# Altium footprint library conn.PcbLib: 1 footprints
Each footprint in its own frame and in the unit in brackets; x right, y up, seen from the top. Pads: shape width x height; smd on the part's side, far side on the other; paste and mask are expansions set on the pad; w line width, h text height; cw(c..) or ccw(c..) is an arc to the next point about the centre after c.
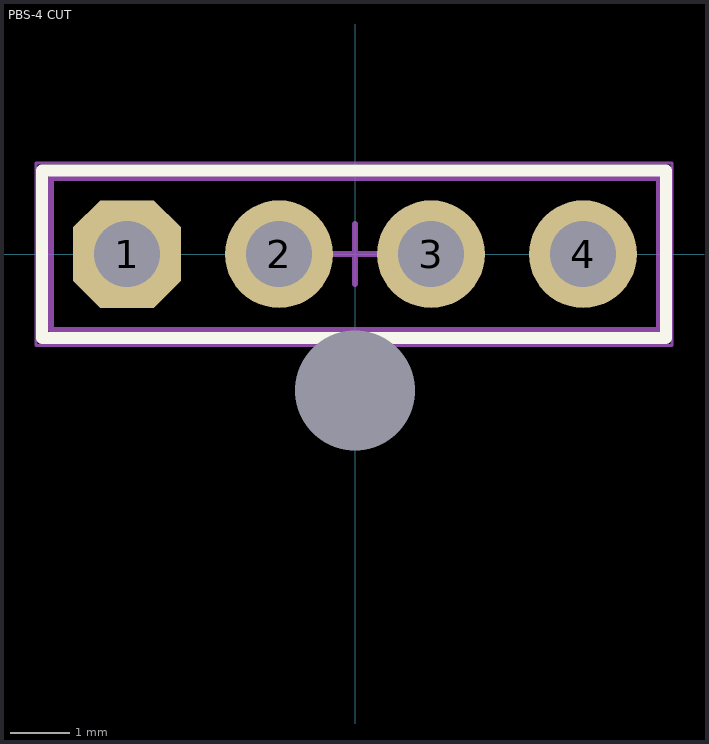
[diagram p0: the footprint, top view; thin cyan lines are the x and y axes]

## PBS-4 CUT [mm]
pads (5):
  oct 1.8x1.8 hole 1.1: 1(-3.81,0)
  round 1.8 hole 1.1: 2(-1.27,0) 3(1.27,0) 4(3.81,0)
  rrect50% 0x0 hole 2 square: ""(0,-2.28)
Top Overlay:
  lines w0.2: -5.23,-1.4 5.2,-1.4 5.2,1.4 -5.23,1.4 -5.23,-1.4
Mechanical 1:
  lines w0.1: -5.08,-1.27 5.08,-1.27 5.08,1.27 -5.08,1.27 -5.08,-1.27
Mechanical 15:
  lines w0.05: -5.334,-1.524 -5.334,1.524 5.3,1.524 5.3,-1.524 -5.334,-1.524
  lines w0.1: -0.5,0 0.5,0 ; 0,-0.5 0,0.5 ; 0.77,0 1.77,0 ; 1.27,-0.5 1.27,0.5
3D body "PBS-04.STEP": height 8.4, standoff -3.2, extent -5.08,-1.27 5.08,1.27